# Altium schematic symbol library 826629-4.SchLib: 1 symbol
Pins are listed as number, name and electrical type; pins without a type are passive.

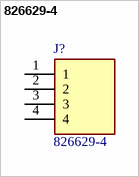
[diagram p0: symbol 826629-4]

## 826629-4
designator J?
4w Single row straight header gold; Manufacturer_Name: TE Connectivity; Geometry.Height: 9.5mm; Mouser Part Number: 571-826629-4; Mouser Price/Stock: https://www.mouser.co.uk/ProductDetail/TE-Connectivity/826629-4?qs=FazuUmncXom81cYQ0o6zwQ%3D%3D; Manufacturer_Part_Number: 826629-4; Datasheet Link: https://componentsearchengine.com/Datasheets/2/826629-4.pdf
footprint HDRV4W63P0X254_1X4_1016X250X950P
pins: 1, 2, 3, 4